# Altium integrated library WD Communication Transmitter.IntLib: 4 symbols
Pins are listed as number, name and electrical type; pins without a type are passive.

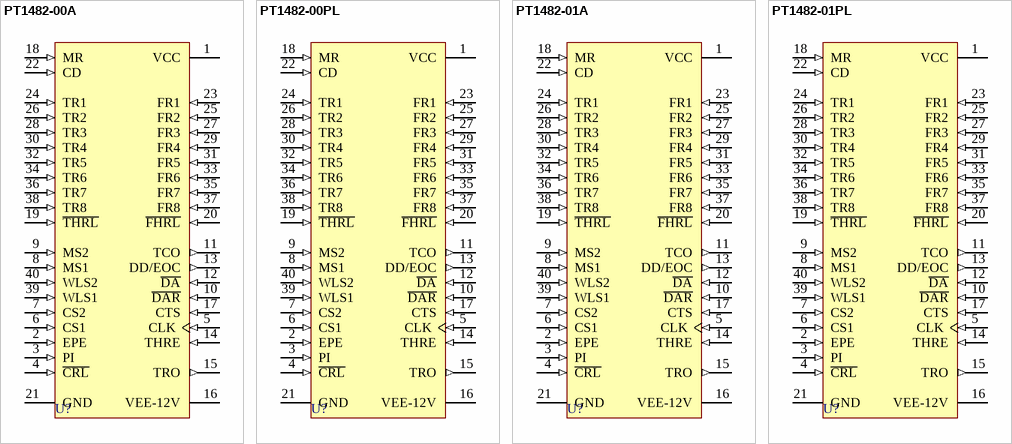
[diagram p0: symbols PT1482-00A to PT1482-01PL]

## PT1482-00A
designator U?
Programmable Synchronous and Asynchronous Transmitter; PackageDocument: 1984; Published: 8-Jun-2000; LatestRevisionDate: 4-Mar-2005; LatestRevisionNote: Stylized 3D Model Added.; DatasheetDocument: 1984; PackageReference: A40; Publisher: Altium Limited; ComponentLink1Description: Manufacturer Link; ComponentLink1URL: http://www.wdc.com/
footprint A40 (DIP; 40 Leads; Row Spacing 15.24 mm; Pitch 2.54 mm)
3D model A40 (DIP; 40 Leads; Row Spacing 15.24 mm; Pitch 2.54 mm)
pins: 1 VCC (power), 2 EPE (in), 3 PI (in), 4 ~{CRL} (in), 5 CLK (in), 6 CS1 (in), 7 CS2 (in), 8 MS1 (in), 9 MS2 (in), 10 ~{DAR} (in), 11 TCO (out), 12 ~{DA} (in), 13 DD/EOC (out), 14 THRE (in), 15 TRO (out), 16 VEE-12V (power), 17 CTS (in), 18 MR (in), 19 ~{THRL} (in), 20 ~{FHRL} (in), 21 GND (power), 22 CD (in), 23 FR1 (in), 24 TR1 (in), 25 FR2 (in), 26 TR2 (in), 27 FR3 (in), 28 TR3 (in), 29 FR4 (in), 30 TR4 (in), 31 FR5 (in), 32 TR5 (in), 33 FR6 (in), 34 TR6 (in), 35 FR7 (in), 36 TR7 (in), 37 FR8 (in), 38 TR8 (in), 39 WLS1 (in), 40 WLS2 (in)

## PT1482-00PL
designator U?
Programmable Synchronous and Asynchronous Transmitter; PackageDocument: 1984; Published: 8-Jun-2000; LatestRevisionDate: 4-Mar-2005; LatestRevisionNote: Stylized 3D Model Added.; DatasheetDocument: 1984; PackageReference: PL40; Publisher: Altium Limited; ComponentLink1Description: Manufacturer Link; ComponentLink1URL: http://www.wdc.com/
footprint PL40 (DIP; 40 Leads; Row Spacing 15.24 mm; Pitch 2.54 mm)
3D model PL40 (DIP; 40 Leads; Row Spacing 15.24 mm; Pitch 2.54 mm)
pins: 1 VCC (power), 2 EPE (in), 3 PI (in), 4 ~{CRL} (in), 5 CLK (in), 6 CS1 (in), 7 CS2 (in), 8 MS1 (in), 9 MS2 (in), 10 ~{DAR} (in), 11 TCO (out), 12 ~{DA} (in), 13 DD/EOC (out), 14 THRE (in), 15 TRO (out), 16 VEE-12V (power), 17 CTS (in), 18 MR (in), 19 ~{THRL} (in), 20 ~{FHRL} (in), 21 GND (power), 22 CD (in), 23 FR1 (in), 24 TR1 (in), 25 FR2 (in), 26 TR2 (in), 27 FR3 (in), 28 TR3 (in), 29 FR4 (in), 30 TR4 (in), 31 FR5 (in), 32 TR5 (in), 33 FR6 (in), 34 TR6 (in), 35 FR7 (in), 36 TR7 (in), 37 FR8 (in), 38 TR8 (in), 39 WLS1 (in), 40 WLS2 (in)

## PT1482-01A
designator U?
Programmable Synchronous and Asynchronous Transmitter; PackageDocument: 1984; Published: 8-Jun-2000; LatestRevisionDate: 4-Mar-2005; LatestRevisionNote: Stylized 3D Model Added.; DatasheetDocument: 1984; PackageReference: A40; Publisher: Altium Limited; ComponentLink1Description: Manufacturer Link; ComponentLink1URL: http://www.wdc.com/
footprint A40 (DIP; 40 Leads; Row Spacing 15.24 mm; Pitch 2.54 mm)
3D model A40 (DIP; 40 Leads; Row Spacing 15.24 mm; Pitch 2.54 mm)
pins: 1 VCC (power), 2 EPE (in), 3 PI (in), 4 ~{CRL} (in), 5 CLK (in), 6 CS1 (in), 7 CS2 (in), 8 MS1 (in), 9 MS2 (in), 10 ~{DAR} (in), 11 TCO (out), 12 ~{DA} (in), 13 DD/EOC (out), 14 THRE (in), 15 TRO (out), 16 VEE-12V (power), 17 CTS (in), 18 MR (in), 19 ~{THRL} (in), 20 ~{FHRL} (in), 21 GND (power), 22 CD (in), 23 FR1 (in), 24 TR1 (in), 25 FR2 (in), 26 TR2 (in), 27 FR3 (in), 28 TR3 (in), 29 FR4 (in), 30 TR4 (in), 31 FR5 (in), 32 TR5 (in), 33 FR6 (in), 34 TR6 (in), 35 FR7 (in), 36 TR7 (in), 37 FR8 (in), 38 TR8 (in), 39 WLS1 (in), 40 WLS2 (in)

## PT1482-01PL
designator U?
Programmable Synchronous and Asynchronous Transmitter; PackageDocument: 1984; Published: 8-Jun-2000; LatestRevisionDate: 4-Mar-2005; LatestRevisionNote: Stylized 3D Model Added.; DatasheetDocument: 1984; PackageReference: PL40; Publisher: Altium Limited; ComponentLink1Description: Manufacturer Link; ComponentLink1URL: http://www.wdc.com/
footprint PL40 (DIP; 40 Leads; Row Spacing 15.24 mm; Pitch 2.54 mm)
3D model PL40 (DIP; 40 Leads; Row Spacing 15.24 mm; Pitch 2.54 mm)
pins: 1 VCC (power), 2 EPE (in), 3 PI (in), 4 ~{CRL} (in), 5 CLK (in), 6 CS1 (in), 7 CS2 (in), 8 MS1 (in), 9 MS2 (in), 10 ~{DAR} (in), 11 TCO (out), 12 ~{DA} (in), 13 DD/EOC (out), 14 THRE (in), 15 TRO (out), 16 VEE-12V (power), 17 CTS (in), 18 MR (in), 19 ~{THRL} (in), 20 ~{FHRL} (in), 21 GND (power), 22 CD (in), 23 FR1 (in), 24 TR1 (in), 25 FR2 (in), 26 TR2 (in), 27 FR3 (in), 28 TR3 (in), 29 FR4 (in), 30 TR4 (in), 31 FR5 (in), 32 TR5 (in), 33 FR6 (in), 34 TR6 (in), 35 FR7 (in), 36 TR7 (in), 37 FR8 (in), 38 TR8 (in), 39 WLS1 (in), 40 WLS2 (in)